# EAGLE library part ATTINY13 (library my_devices)
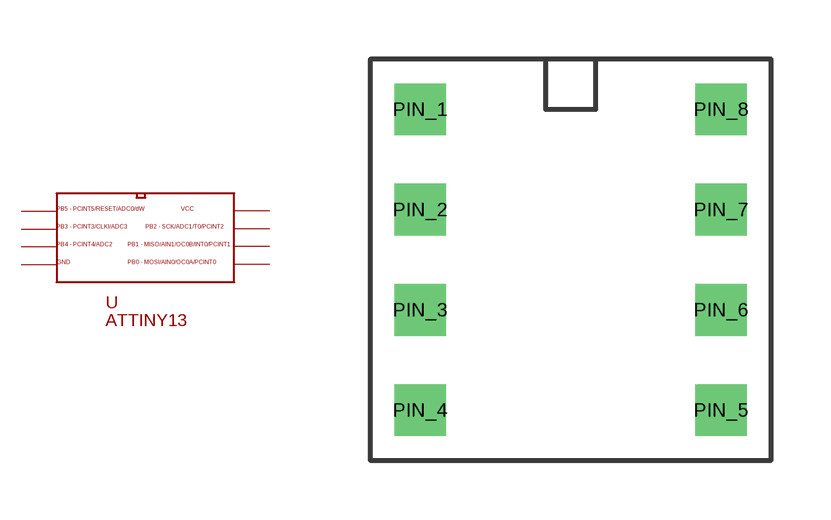
[diagram p15: symbol with the pads of DIP8; footprint DIP8]

Designator prefix U

## ATTINY13  [DIP8]
PIN_1  PB5
PIN_2  PB3
PIN_3  PB4
PIN_4  GND  pwr
PIN_5  PB0
PIN_6  PB1
PIN_7  PB2
PIN_8  VCC  pwr

## Footprint DIP8 (pad centres in mm)
drill 0.8 square: PIN_1 -3.81,3.81; PIN_2 -3.81,1.27; PIN_3 -3.81,-1.27; PIN_4 -3.81,-3.81; PIN_5 3.81,-3.81; PIN_6 3.81,-1.27; PIN_7 3.81,1.27; PIN_8 3.81,3.81